# Altium footprint library dual_tone.PcbLib: 8 footprints
Each footprint in its own frame and in the unit in brackets; x right, y up, seen from the top. Pads: shape width x height; smd on the part's side, far side on the other; paste and mask are expansions set on the pad; w line width, h text height; cw(c..) or ccw(c..) is an arc to the next point about the centre after c.
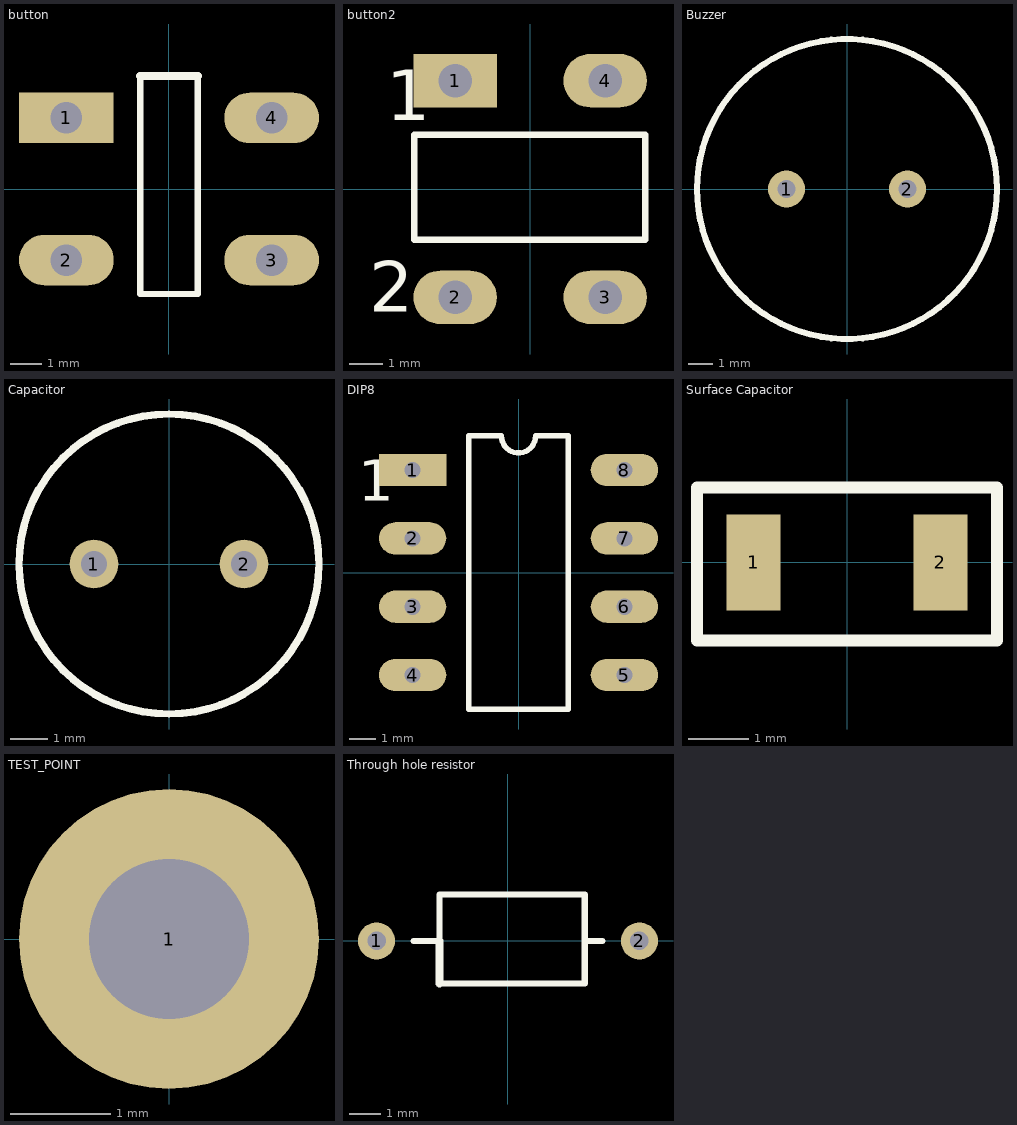
[diagram p0: the footprints below, top view; thin cyan lines are the x and y axes]

## button [mm]
pads (4):
  rect 3x1.6 hole 1: 1(-3.25,2.25)
  oval 3x1.6 hole 1: 2(-3.25,-2.25) 3(3.25,-2.25) 4(3.25,2.25)
Top Overlay:
  lines w0.2: -0.915,3.581 -0.915,-3.327 0.915,-3.327 0.915,3.581
  lines w0.254: -0.915,3.581 0.915,3.581

## button2 [mm]
pads (4):
  rect 2.5x1.6 hole 1: 1(-2.25,3.25)
  oval 2.5x1.6 hole 1: 2(-2.25,-3.25) 3(2.25,-3.25) 4(2.25,3.25)
Top Overlay:
  lines w0.2: -3.48,-1.524 -3.48,1.626 3.454,1.626 3.454,-1.524 -3.48,-1.524
  text "1" at -4.318,2.057 h1.52
  text "2" at -4.826,-3.683 h1.52

## Buzzer [mil]
pads (2):
  round 60 hole 30: 1(-98.43,0) 2(98.43,0)
Top Overlay:
  circle w10: c0,0 r244.09

## Capacitor [mm]
pads (2):
  round 1.3 hole 0.7: 1(-2,0) 2(2,0)
Top Overlay:
  circle w0.2: c0,0 r4

## DIP8 [mm]
pads (8):
  rect 2.5x1.2 hole 0.6: 1(-3.935,3.81)
  oval 2.5x1.2 hole 0.6: 2(-3.935,1.27) 3(-3.935,-1.27) 4(-3.935,-3.81) 5(3.935,-3.81) 6(3.935,-1.27) 7(3.935,1.27) 8(3.935,3.81)
Top Overlay:
  lines w0.2: -1.85,-5.08 -1.85,5.08 -0.635,5.08 ccw(c0,5.08) 0.635,5.08 1.85,5.08 1.85,-5.08 -1.85,-5.08
  text "1" at -5.967,2.667 h1.52

## Surface Capacitor [mm]
pads (2):
  rect 0.9x1.6 smd mask+0.2: 1(-1.55,0) 2(1.55,0)
Top Overlay:
  lines w0.2: -2.489,-1.295 -2.489,1.245 2.489,1.245 2.489,-1.295 -2.489,-1.295

## TEST_POINT [mm]
pads (1):
  round 3 hole 1.6: 1(0,0)

## Through hole resistor [mm]
pads (2):
  round 1.2 hole 0.6: 1(-4.25,0) 2(4.25,0)
Top Overlay:
  lines w0.2: -3.05,0 -2.218,0 -2.218,1.499 2.481,1.499 2.481,-1.372 -2.218,-1.372 ; 2.481,0 3.05,0
  lines w0.254: -2.218,-1.372 -2.218,0